# Altium schematic symbol library MPU-9250.SchLib: 1 symbol
Pins are listed as number, name and electrical type; pins without a type are passive.

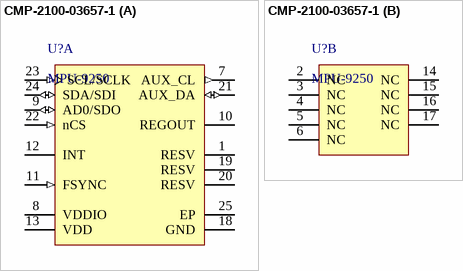
[diagram p0: symbol CMP-2100-03657-1]

## CMP-2100-03657-1
designator U?, comment MPU-9250
9-axis MotionTracking device, 2.4 to 3,6 V, -40 to 85 degC, 24-Pin QFN, RoHS, Tape and Reel; Manufacturer: InvenSense; Max Supply Voltage: 3.6V; Min Supply Voltage: 2.4V; Package Reference: QFN-24; Package Quantity: 1; Datasheet Version: Rev. 1.0, 01/2014; Case/Package: QFN; Package Description: 24-Pin Quad Flat No-lead Package, Body 3 x 3 mm, Pitch 0.4 mm; Datasheet URL: http://datasheet.octopart.com/MPU-9250-InvenSense-datasheet-21859386.pdf; RoHSCompliant: true; Max Operating Temperature: 85degC; Height: 1mm; Mount: SurfaceMount; Manufacturer URL: http://www.invensense.com/; Width: 3.1mm; Min Operating Temperature: -40degC; Length: 3.1mm
footprint INSE-QFN-24-1700X1540TP_L (QFN, 24-Leads, Body 3.1x3.1mm, Pitch 0.40mm, Thermal Pad 1.54x1.70mm, IPC High Density)
footprint INSE-QFN-24-1700X1540TP_N (QFN, 24-Leads, Body 3.1x3.1mm, Pitch 0.40mm, Thermal Pad 1.54x1.70mm, IPC Medium Density)
footprint INSE-QFN-24-1700X1540TP_M (QFN, 24-Leads, Body 3.1x3.1mm, Pitch 0.40mm, Thermal Pad 1.54x1.70mm, IPC Low Density)
part A pins: 1 RESV (power) "Reserved. Connect to VDDIO", 7 AUX_CL (out) "I2C Master serial clock, for connecting to external sensors", 8 VDDIO (power) "Digital I/O supply voltage", 9 AD0/SDO (io) "I2C Slave Address LSB (AD0); SPI serial data output (SDO)", 10 REGOUT "Regulator filter capacitor connection", 11 FSYNC (in) "Frame synchronization digital input. Connect to GND if unused", 12 INT (hiz) "Interrupt digital output (totem pole or open-drain)", 13 VDD (power) "Power supply voltage and Digital I/O supply voltage", 18 GND (power) "Pow er supply ground", 19 RESV "Reserved. Do not connect", 20 RESV (power) "Reserved. Connect to GND", 21 AUX_DA (io) "I2C master serial data, for connecting to external sensors", 22 nCS (in) "Chip select (SPI mode only)", 23 SCL/SCLK (in) "I2C serial clock (SCL); SPI serial clock (SCLK)", 24 SDA/SDI (io) "I2C serial data (SDA); SPI serial data input (SDI)", 25 EP
part B pins: 2 NC "Not internally connected. May be used for PCB trace routing", 3 NC "Not internally connected. May be used for PCB trace routing", 4 NC "Not internally connected. May be used for PCB trace routing", 5 NC "Not internally connected. May be used for PCB trace routing", 6 NC "Not internally connected. May be used for PCB trace routing", 14 NC "Not internally connected. May be used for PCB trace routing", 15 NC "Not internally connected. May be used for PCB trace routing", 16 NC "Not internally connected. May be used for PCB trace routing", 17 NC "Not internally connected. May be used for PCB trace routing"